# Altium footprint library WR-TBL_Rising Cage Clamp_10.00mm.PcbLib: 54 footprints (part 3 of 4)
Each footprint in its own frame and in the unit in brackets; x right, y up, seen from the top. Pads: shape width x height; smd on the part's side, far side on the other; paste and mask are expansions set on the pad; w line width, h text height; cw(c..) or ccw(c..) is an arc to the next point about the centre after c.
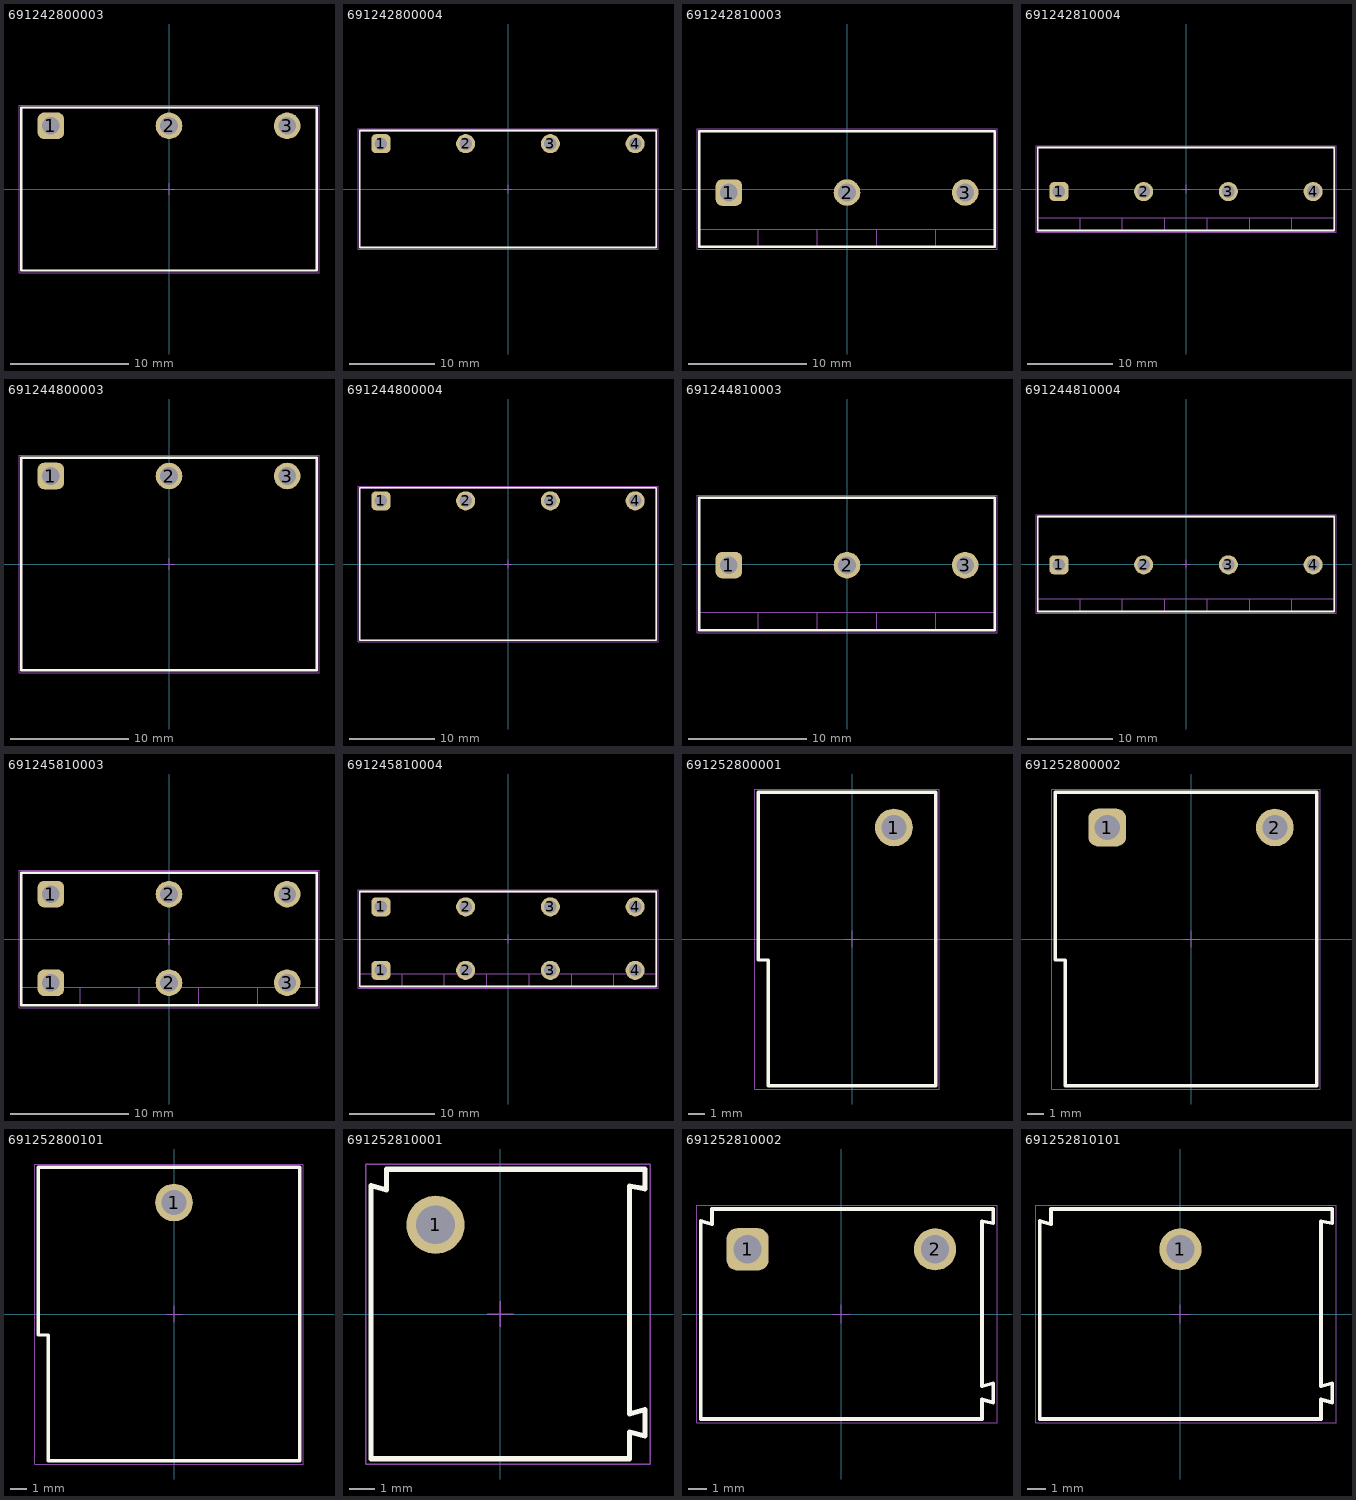
[diagram p2: the footprints below, top view; thin cyan lines are the x and y axes]

## 691242800003 [mm] "Serie 2428-10.00mm Vertical Cable Entry with Rising Cage Clamp, 3 pins"
height 9
pads (3):
  rrect50% 2.25x2.25 hole 1.5: 1(-10,5.35)
  round 2.25 hole 1.5: 2(0,5.35) 3(10,5.35)
Top Overlay:
  lines w0.2: -12.5,-6.9 -12.5,6.9 12.5,6.9 12.5,-6.9 -12.5,-6.9
Top Designator:
  text ".Designator" at -7.498,-0.5 h1.5
Top Component Outline:
  lines w0.1: -12.5,-6.9 12.5,-6.9 12.5,6.9 -12.5,6.9 -12.5,-6.9
Top 3D Body:
  lines w0.1: -12.5,-6.9 -12.5,6.9 12.5,6.9 12.5,-6.9 -12.5,-6.9
Top Courtyard:
  lines w0.05: -12.7,-7.1 -12.7,7.1 12.7,7.1 12.7,-7.1 -12.7,-7.1
Top Component Center:
  lines w0.05: -0.5,0 0.5,0 ; 0,-0.5 0,0.5
3D body "691242800003.stp": height 10, standoff -3.3, extent -12.5,-6.9 12.5,6.9

## 691242800004 [mm] "Serie 2428-10.00mm Vertical Cable Entry with Rising Cage Clamp, 4 pins"
height 9
pads (4):
  rrect50% 2.25x2.25 hole 1.5: 1(-15,5.35)
  round 2.25 hole 1.5: 2(-5,5.35) 3(5,5.35) 4(15,5.35)
Top Overlay:
  lines w0.2: -17.5,-6.9 17.5,-6.9 17.5,6.9 -17.5,6.9 -17.5,-6.9
Top Designator:
  text ".Designator" at -7.498,-0.5 h1.5
Top Component Outline:
  lines w0.1: -17.5,-6.9 -17.5,6.9 17.5,6.9 17.5,-6.9 -17.5,-6.9
Top 3D Body:
  lines w0.1: -17.5,-6.9 17.5,-6.9 17.5,6.9 -17.5,6.9 -17.5,-6.9
Top Courtyard:
  lines w0.05: -17.7,-7.1 17.7,-7.1 17.7,7.1 -17.7,7.1 -17.7,-7.1
Top Component Center:
  lines w0.05: -0.5,0 0.5,0 ; 0,-0.5 0,0.5
3D body "691242800004.stp": height 10, standoff -3.3, extent -17.5,-6.9 17.5,6.9

## 691242810003 [mm] "Serie 2428 - 10.00 mm _ 3 pins"
height 13.8
pads (3):
  rrect50% 2.25x2.25 hole 1.5: 1(-10,-0.3)
  round 2.25 hole 1.5: 2(0,-0.3) 3(10,-0.3)
Top Overlay:
  lines w0.2: -12.5,-4.9 12.5,-4.9 12.5,4.9 -12.5,4.9 -12.5,-4.9
Top Designator:
  text ".Designator" at -7.498,-0.5 h1.5
Top Component Outline:
  lines w0.1: -12.5,-3.4 12.5,-3.4 ; -7.5,-4.9 -7.5,-3.4 ; -2.5,-4.9 -2.5,-3.4 ; 2.5,-4.9 2.5,-3.4 ; 7.5,-4.9 7.5,-3.4 ; -12.5,-4.9 -12.5,4.9 12.5,4.9 12.5,-4.9 -12.5,-4.9
Top 3D Body:
  lines w0.1: -12.5,-3.4 12.5,-3.4 ; -7.5,-4.9 -7.5,-3.4 ; -2.5,-4.9 -2.5,-3.4 ; 2.5,-4.9 2.5,-3.4 ; 7.5,-4.9 7.5,-3.4 ; -12.5,-4.9 12.5,-4.9 12.5,4.9 -12.5,4.9 -12.5,-4.9
Top Courtyard:
  lines w0.05: -12.7,-5.1 12.7,-5.1 12.7,5.1 -12.7,5.1 -12.7,-5.1
Top Component Center:
  lines w0.05: -0.5,0 0.5,0 ; 0,-0.5 0,0.5
3D body "691242810003.stp": height 13.9, standoff -3.4, extent -12.5,-4.9 12.5,4.9

## 691242810004 [mm] "Serie 2428 - 10.00 mm _ 4 pins"
height 13.8
pads (4):
  rrect50% 2.25x2.25 hole 1.5: 1(-15,-0.3)
  round 2.25 hole 1.5: 2(-5,-0.3) 3(5,-0.3) 4(15,-0.3)
Top Overlay:
  lines w0.2: -17.5,-4.9 -17.5,4.9 17.5,4.9 17.5,-4.9 -17.5,-4.9
Top Designator:
  text ".Designator" at -7.498,-0.5 h1.5
Top Component Outline:
  lines w0.1: -17.5,-3.4 17.5,-3.4 ; -12.5,-4.9 -12.5,-3.4 ; -7.5,-4.9 -7.5,-3.4 ; -2.5,-4.9 -2.5,-3.4 ; 2.5,-4.9 2.5,-3.4 ; 7.5,-4.9 7.5,-3.4 ; 12.5,-4.9 12.5,-3.4 ; -17.5,-4.9 17.5,-4.9 17.5,4.9 -17.5,4.9 -17.5,-4.9
Top 3D Body:
  lines w0.1: -17.5,-3.4 17.5,-3.4 ; -12.5,-4.9 -12.5,-3.4 ; -7.5,-4.9 -7.5,-3.4 ; -2.5,-4.9 -2.5,-3.4 ; 2.5,-4.9 2.5,-3.4 ; 7.5,-4.9 7.5,-3.4 ; 12.5,-4.9 12.5,-3.4 ; -17.5,-4.9 -17.5,4.9 17.5,4.9 17.5,-4.9 -17.5,-4.9
Top Courtyard:
  lines w0.05: -17.7,-5.1 -17.7,5.1 17.7,5.1 17.7,-5.1 -17.7,-5.1
Top Component Center:
  lines w0.05: -0.5,0 0.5,0 ; 0,-0.5 0,0.5
3D body "691242810004.stp": height 13.9, standoff -3.4, extent -17.5,-4.9 17.5,4.9

## 691244800003 [mm] "Serie 2448 - 10.00 mm _ 3 pins"
height 11.2
pads (3):
  rrect50% 2.25x2.25 hole 1.5: 1(-10,7.45)
  round 2.25 hole 1.5: 2(0,7.45) 3(10,7.45)
Top Overlay:
  lines w0.2: -12.5,-9 -12.5,9 12.5,9 12.5,-9 -12.5,-9
Top Designator:
  text ".Designator" at -7.498,-0.5 h1.5
Top Component Outline:
  lines w0.1: -12.5,-9 12.5,-9 12.5,9 -12.5,9 -12.5,-9
Top 3D Body:
  lines w0.1: -12.5,-9 -12.5,9 12.5,9 12.5,-9 -12.5,-9
Top Courtyard:
  lines w0.05: -12.7,-9.2 -12.7,9.2 12.7,9.2 12.7,-9.2 -12.7,-9.2
Top Component Center:
  lines w0.05: -0.5,0 0.5,0 ; 0,-0.5 0,0.5
3D body "691244800003.stp": height 11.3, standoff -3.9, extent -12.5,-9.05 12.5,8.95

## 691244800004 [mm] "Serie 2448 - 10.00 mm _ 4 pins"
height 11.2
pads (4):
  rrect50% 2.25x2.25 hole 1.5: 1(-15,7.45)
  round 2.25 hole 1.5: 2(-5,7.45) 3(5,7.45) 4(15,7.45)
Top Overlay:
  lines w0.2: -17.5,-9 17.5,-9 17.5,9 -17.5,9 -17.5,-9
Top Designator:
  text ".Designator" at -7.498,-0.5 h1.5
Top Component Outline:
  lines w0.1: -17.5,-9 -17.5,9 17.5,9 17.5,-9 -17.5,-9
Top 3D Body:
  lines w0.1: -17.5,-9 17.5,-9 17.5,9 -17.5,9 -17.5,-9
Top Courtyard:
  lines w0.05: -17.7,-9.2 17.7,-9.2 17.7,9.2 -17.7,9.2 -17.7,-9.2
Top Component Center:
  lines w0.05: -0.5,0 0.5,0 ; 0,-0.5 0,0.5
3D body "691244800004.stp": height 11.3, standoff -3.9, extent -17.5,-9.05 17.5,8.95

## 691244810003 [mm] "Serie 2448 - 10.00 mm _ 3 pins"
height 18
pads (3):
  rrect50% 2.25x2.25 hole 1.5: 1(-10,-0.1)
  round 2.25 hole 1.5: 2(0,-0.1) 3(10,-0.1)
Top Overlay:
  lines w0.2: -12.5,-5.6 -12.5,5.6 12.5,5.6 12.5,-5.6 -12.5,-5.6
Top Designator:
  text ".Designator" at -7.498,-0.5 h1.5
Top Component Outline:
  lines w0.1: -12.5,-4.1 12.5,-4.1 ; -7.5,-5.6 -7.5,-4.1 ; -2.5,-5.6 -2.5,-4.1 ; 2.5,-5.6 2.5,-4.1 ; 7.5,-5.6 7.5,-4.1 ; -12.5,-5.6 12.5,-5.6 12.5,5.6 -12.5,5.6 -12.5,-5.6
Top 3D Body:
  lines w0.1: -12.5,-4.1 12.5,-4.1 ; -7.5,-5.6 -7.5,-4.1 ; -2.5,-5.6 -2.5,-4.1 ; 2.5,-5.6 2.5,-4.1 ; 7.5,-5.6 7.5,-4.1 ; -12.5,-5.6 -12.5,5.6 12.5,5.6 12.5,-5.6 -12.5,-5.6
Top Courtyard:
  lines w0.05: -12.7,-5.8 12.7,-5.8 12.7,5.8 -12.7,5.8 -12.7,-5.8
Top Component Center:
  lines w0.05: -0.5,0 0.5,0 ; 0,-0.5 0,0.5
3D body "691244810003.stp": height 18.1, standoff -3.9, extent -12.5,-5.6 12.5,5.6

## 691244810004 [mm] "Serie 2448 - 10.00 mm _ 4 pins"
height 18
pads (4):
  rrect50% 2.25x2.25 hole 1.5: 1(-15,-0.1)
  round 2.25 hole 1.5: 2(-5,-0.1) 3(5,-0.1) 4(15,-0.1)
Top Overlay:
  lines w0.2: -17.5,-5.6 17.5,-5.6 17.5,5.6 -17.5,5.6 -17.5,-5.6
Top Designator:
  text ".Designator" at -7.498,-0.5 h1.5
Top Component Outline:
  lines w0.1: -17.5,-4.1 17.5,-4.1 ; -12.5,-5.6 -12.5,-4.1 ; -7.5,-5.6 -7.5,-4.1 ; -2.5,-5.6 -2.5,-4.1 ; 2.5,-5.6 2.5,-4.1 ; 7.5,-5.6 7.5,-4.1 ; 12.5,-5.6 12.5,-4.1 ; -17.5,-5.6 -17.5,5.6 17.5,5.6 17.5,-5.6 -17.5,-5.6
Top 3D Body:
  lines w0.1: -17.5,-4.1 17.5,-4.1 ; -12.5,-5.6 -12.5,-4.1 ; -7.5,-5.6 -7.5,-4.1 ; -2.5,-5.6 -2.5,-4.1 ; 2.5,-5.6 2.5,-4.1 ; 7.5,-5.6 7.5,-4.1 ; 12.5,-5.6 12.5,-4.1 ; -17.5,-5.6 17.5,-5.6 17.5,5.6 -17.5,5.6 -17.5,-5.6
Top Courtyard:
  lines w0.05: -17.7,-5.8 -17.7,5.8 17.7,5.8 17.7,-5.8 -17.7,-5.8
Top Component Center:
  lines w0.05: -0.5,0 0.5,0 ; 0,-0.5 0,0.5
3D body "691244810004.stp": height 18.1, standoff -3.9, extent -17.5,-5.6 17.5,5.6

## 691245810003 [mm] "Serie 2458-10.00mm Horizontal Cable Entry with Rising Cage Clamp, 3 pins"
height 18
pads (6):
  rrect50% 2.25x2.25 hole 1.5: 1(-10,-3.7) 1(-10,3.8)
  round 2.25 hole 1.5: 2(0,-3.7) 2(0,3.8) 3(10,-3.7) 3(10,3.8)
Top Overlay:
  lines w0.2: -12.5,-5.6 -12.5,5.6 12.5,5.6 12.5,-5.6 -12.5,-5.6
Top Designator:
  text ".Designator" at -7.498,-0.5 h1.5
Top Component Outline:
  lines w0.1: -12.5,-4.1 12.5,-4.1 ; -7.5,-5.6 -7.5,-4.1 ; -2.5,-5.6 -2.5,-4.1 ; 2.5,-5.6 2.5,-4.1 ; 7.5,-5.6 7.5,-4.1 ; -12.5,-5.6 12.5,-5.6 12.5,5.6 -12.5,5.6 -12.5,-5.6
Top 3D Body:
  lines w0.1: -12.5,-4.1 12.5,-4.1 ; -7.5,-5.6 -7.5,-4.1 ; -2.5,-5.6 -2.5,-4.1 ; 2.5,-5.6 2.5,-4.1 ; 7.5,-5.6 7.5,-4.1 ; -12.5,-5.6 -12.5,5.6 12.5,5.6 12.5,-5.6 -12.5,-5.6
Top Courtyard:
  lines w0.05: -12.7,-5.8 12.7,-5.8 12.7,5.8 -12.7,5.8 -12.7,-5.8
Top Component Center:
  lines w0.05: -0.5,0 0.5,0 ; 0,-0.5 0,0.5
3D body "691245810003.stp": height 18.02, standoff -3.48, extent -12.5,-5.6 12.5,5.6

## 691245810004 [mm] "Serie 2458-10.00mm Horizontal Cable Entry with Rising Cage Clamp, 4 pins"
height 18
pads (8):
  rrect50% 2.25x2.25 hole 1.5: 1(-15,-3.7) 1(-15,3.8)
  round 2.25 hole 1.5: 2(-5,-3.7) 2(-5,3.8) 3(5,-3.7) 3(5,3.8) 4(15,-3.7) 4(15,3.8)
Top Overlay:
  lines w0.2: -17.5,-5.6 -17.5,5.6 17.5,5.6 17.5,-5.6 -17.5,-5.6
Top Designator:
  text ".Designator" at -7.498,-0.5 h1.5
Top Component Outline:
  lines w0.1: -17.5,-4.1 17.5,-4.1 ; -12.5,-5.6 -12.5,-4.1 ; -7.5,-5.6 -7.5,-4.1 ; -2.5,-5.6 -2.5,-4.1 ; 2.5,-5.6 2.5,-4.1 ; 7.5,-5.6 7.5,-4.1 ; 12.5,-5.6 12.5,-4.1 ; -17.5,-5.6 17.5,-5.6 17.5,5.6 -17.5,5.6 -17.5,-5.6
Top 3D Body:
  lines w0.1: -17.5,-4.1 17.5,-4.1 ; -12.5,-5.6 -12.5,-4.1 ; -7.5,-5.6 -7.5,-4.1 ; -2.5,-5.6 -2.5,-4.1 ; 2.5,-5.6 2.5,-4.1 ; 7.5,-5.6 7.5,-4.1 ; 12.5,-5.6 12.5,-4.1 ; -17.5,-5.6 -17.5,5.6 17.5,5.6 17.5,-5.6 -17.5,-5.6
Top Courtyard:
  lines w0.05: -17.7,-5.8 17.7,-5.8 17.7,5.8 -17.7,5.8 -17.7,-5.8
Top Component Center:
  lines w0.05: -0.5,0 0.5,0 ; 0,-0.5 0,0.5
3D body "691245810004.stp": height 18.02, standoff -3.48, extent -17.5,-5.6 17.5,5.6

## 691252800001 [mm] "Serie 2528-10mm Vertical Cable Entry, 01p"
height 16
pads (1):
  round 2.25 hole 1.5: 1(2.5,6.65)
Top Overlay:
  lines w0.2: -5.6,-1.25 -5.6,8.75 5,8.75 5,-8.75 -5,-8.75 -5,-1.25 -5.6,-1.25
Top Designator:
  text ".Designator" at -7.498,-0.5 h1.5
Top Component Outline:
  lines w0.1: -5.6,-1.25 -5,-1.25 -5,-8.75 5,-8.75 5,8.75 -5.6,8.75 -5.6,-1.25
Top 3D Body:
  lines w0.1: -5.6,-1.25 -5.6,8.75 5,8.75 5,-8.75 -5,-8.75 -5,-1.25 -5.6,-1.25
Top Courtyard:
  lines w0.05: -5.8,-8.95 5.2,-8.95 5.2,8.95 -5.8,8.95 -5.8,-8.95
Top Component Center:
  lines w0.05: -0.5,0 0.5,0 ; 0,-0.5 0,0.5
3D body "691252800001.stp": height 16.1, standoff -2.9, extent -5.6,-8.75 5,8.75

## 691252800002 [mm] "Serie 2528-10mm Vertical Cable Entry, 02p"
height 16
pads (2):
  rrect50% 2.25x2.25 hole 1.5: 1(-5,6.65)
  round 2.25 hole 1.5: 2(5,6.65)
Top Overlay:
  lines w0.2: -8.1,-1.25 -7.5,-1.25 -7.5,-8.75 7.5,-8.75 7.5,8.75 -8.1,8.75 -8.1,-1.25
Top Designator:
  text ".Designator" at -7.498,-0.5 h1.5
Top Component Outline:
  lines w0.1: -8.1,-1.25 -8.1,8.75 7.5,8.75 7.5,-8.75 -7.5,-8.75 -7.5,-1.25 -8.1,-1.25
Top 3D Body:
  lines w0.1: -8.1,-1.25 -7.5,-1.25 -7.5,-8.75 7.5,-8.75 7.5,8.75 -8.1,8.75 -8.1,-1.25
Top Courtyard:
  lines w0.05: -8.3,-8.95 -8.3,8.95 7.7,8.95 7.7,-8.95 -8.3,-8.95
Top Component Center:
  lines w0.05: -0.5,0 0.5,0 ; 0,-0.5 0,0.5
3D body "691252800002.stp": height 16.1, standoff -2.9, extent -8.1,-8.75 7.5,8.75

## 691252800101 [mm] "Serie 2528-10mm Vertical Cable Entry, 01p"
height 16
pads (1):
  round 2.25 hole 1.5: 1(0,6.65)
Top Overlay:
  lines w0.2: -8.1,-1.25 -7.5,-1.25 -7.5,-8.75 7.5,-8.75 7.5,8.75 -8.1,8.75 -8.1,-1.25
Top Designator:
  text ".Designator" at -7.498,-0.5 h1.5
Top Component Outline:
  lines w0.1: -8.1,-1.25 -8.1,8.75 7.5,8.75 7.5,-8.75 -7.5,-8.75 -7.5,-1.25 -8.1,-1.25
Top 3D Body:
  lines w0.1: -8.1,-1.25 -7.5,-1.25 -7.5,-8.75 7.5,-8.75 7.5,8.75 -8.1,8.75 -8.1,-1.25
Top Courtyard:
  lines w0.05: -8.3,-8.95 -8.3,8.95 7.7,8.95 7.7,-8.95 -8.3,-8.95
Top Component Center:
  lines w0.05: -0.5,0 0.5,0 ; 0,-0.5 0,0.5
3D body "691252800101.stp": height 16.1, standoff -2.9, extent -8.1,-8.75 7.5,8.75

## 691252810001 [mm] "Serie 2528 - 10.00 mm _ 1 pin"
height 17.5
pads (1):
  round 2.25 hole 1.5: 1(-2.5,3.45)
Top Overlay:
  lines w0.2: -4.4,4.79 -4.4,5.6 5.6,5.6 5.6,4.84 ; -4.399,4.792 -5,4.96 -5,-5.6 5,-5.6 5,-4.56 5.6,-4.72 ; 5.6,-4.72 5.6,-3.7 ; 5.6,-3.7 5,-3.86 5,4.95 5.601,4.843
Top Designator:
  text ".Designator" at -7.498,-0.5 h1.5
Top Component Outline:
  lines w0.1: -4.4,4.79 -4.4,5.6 5.6,5.6 5.6,4.84 ; -4.399,4.792 -5,4.96 -5,-5.6 5,-5.6 5,-4.56 5.6,-4.72 ; 5.6,-4.72 5.6,-3.7 ; 5.6,-3.7 5,-3.86 5,4.95 5.601,4.843
Top 3D Body:
  lines w0.1: -4.4,4.79 -4.4,5.6 5.6,5.6 5.6,4.84 ; -4.399,4.792 -5,4.96 -5,-5.6 5,-5.6 5,-4.56 5.6,-4.72 ; 5.6,-4.72 5.6,-3.7 ; 5.6,-3.7 5,-3.86 5,4.95 5.601,4.843
Top Courtyard:
  lines w0.05: -5.2,-5.8 -5.2,5.8 5.8,5.8 5.8,-5.8 -5.2,-5.8
Top Component Center:
  lines w0.05: -0.5,0 0.5,0 ; 0,-0.5 0,0.5
3D body "691252810001.stp": height 17.7, standoff -2.8, extent -5,-5.6 5.6,5.6

## 691252810002 [mm] "Serie 2528 - 10.00 mm _ 2 pins"
height 17.5
pads (2):
  rrect50% 2.25x2.25 hole 1.5: 1(-5,3.45)
  round 2.25 hole 1.5: 2(5,3.45)
Top Overlay:
  lines w0.2: -6.9,4.79 -6.9,5.6 8.1,5.6 8.1,4.84 ; -6.899,4.792 -7.5,4.96 -7.5,-5.6 7.5,-5.6 7.5,-4.56 8.1,-4.72 ; 8.1,-4.72 8.1,-3.7 ; 8.1,-3.7 7.5,-3.86 7.5,4.95 8.101,4.843
Top Designator:
  text ".Designator" at -7.498,-0.5 h1.5
Top Component Outline:
  lines w0.1: -6.9,4.79 -6.9,5.6 8.1,5.6 8.1,4.84 ; -6.899,4.792 -7.5,4.96 -7.5,-5.6 7.5,-5.6 7.5,-4.56 8.1,-4.72 ; 8.1,-4.72 8.1,-3.7 ; 8.1,-3.7 7.5,-3.86 7.5,4.95 8.101,4.843
Top 3D Body:
  lines w0.1: -6.9,4.79 -6.9,5.6 8.1,5.6 8.1,4.84 ; -6.899,4.792 -7.5,4.96 -7.5,-5.6 7.5,-5.6 7.5,-4.56 8.1,-4.72 ; 8.1,-4.72 8.1,-3.7 ; 8.1,-3.7 7.5,-3.86 7.5,4.95 8.101,4.843
Top Courtyard:
  lines w0.05: -7.7,-5.8 8.3,-5.8 8.3,5.8 -7.7,5.8 -7.7,-5.8
Top Component Center:
  lines w0.05: -0.5,0 0.5,0 ; 0,-0.5 0,0.5
3D body "691252810002.stp": height 17.7, standoff -2.8, extent -7.5,-5.6 8.1,5.6

## 691252810101 [mm] "Serie 2528 - 10.00 mm _ 1 pin"
height 17.5
pads (1):
  round 2.25 hole 1.5: 1(0,3.45)
Top Overlay:
  lines w0.2: -6.9,4.79 -6.9,5.6 8.1,5.6 8.1,4.84 ; -6.899,4.792 -7.5,4.96 -7.5,-5.6 7.5,-5.6 7.5,-4.56 8.1,-4.72 ; 8.1,-4.72 8.1,-3.7 ; 8.1,-3.7 7.5,-3.86 7.5,4.95 8.101,4.843
Top Designator:
  text ".Designator" at -7.498,-0.5 h1.5
Top Component Outline:
  lines w0.1: -6.9,4.79 -6.9,5.6 8.1,5.6 8.1,4.84 ; -6.899,4.792 -7.5,4.96 -7.5,-5.6 7.5,-5.6 7.5,-4.56 8.1,-4.72 ; 8.1,-4.72 8.1,-3.7 ; 8.1,-3.7 7.5,-3.86 7.5,4.95 8.101,4.843
Top 3D Body:
  lines w0.1: -6.9,4.79 -6.9,5.6 8.1,5.6 8.1,4.84 ; -6.899,4.792 -7.5,4.96 -7.5,-5.6 7.5,-5.6 7.5,-4.56 8.1,-4.72 ; 8.1,-4.72 8.1,-3.7 ; 8.1,-3.7 7.5,-3.86 7.5,4.95 8.101,4.843
Top Courtyard:
  lines w0.05: -7.7,-5.8 8.3,-5.8 8.3,5.8 -7.7,5.8 -7.7,-5.8
Top Component Center:
  lines w0.05: -0.5,0 0.5,0 ; 0,-0.5 0,0.5
3D body "691252810101.stp": height 17.7, standoff -2.8, extent -7.5,-5.6 8.1,5.6